# EAGLE library part ML6 (library TABOR K1)
6 pinovy konektor samec typu ML
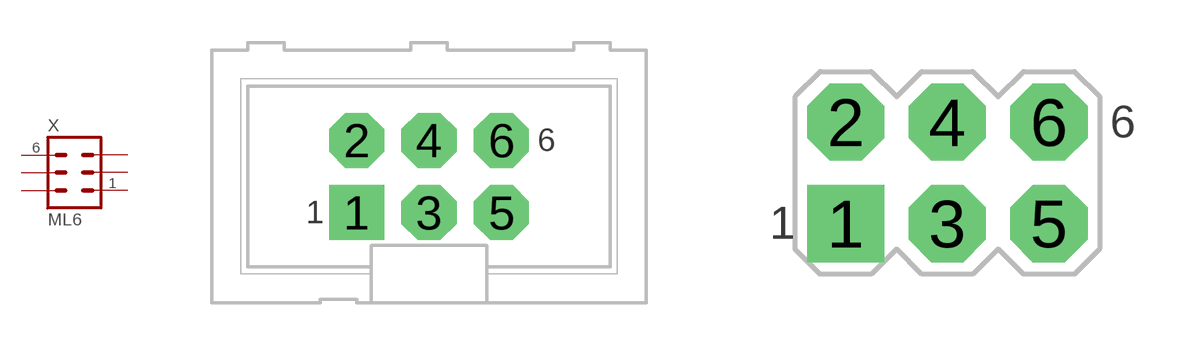
[diagram p35: symbol with the pads of MLW6; footprints MLW6, MLA6]

Designator prefix X

## ML6W  [MLW6]
1  1  pas
2  2  pas
3  3  pas
4  4  pas
5  5  pas
6  6  pas

## ML6A  [MLA6]
Pads as for MLW6

## Footprint MLW6 (pad centres in mm)
6-pinovy konektor HARTING : kolik= 0,6x0,6mm, diera s pokovenim = 0,9mm, vrtanie = 1,1mm
drill 1.092 pad 1.93 square: 1 -2.54,-1.27
drill 1.092 pad 1.93 octagon: 2 -2.54,1.27; 3 0,-1.27; 4 0,1.27; 5 2.54,-1.27; 6 2.54,1.27

## Footprint MLA6 (pad centres in mm)
6-pinovy konektor - samec : kolik= 0,6x0,6mm, diera s pokovenim = 0,9mm, vrtanie = 1,1mm
drill 1.092 pad 1.93 square: 1 -2.54,-1.27
drill 1.092 pad 1.93 octagon: 2 -2.54,1.27; 3 0,-1.27; 4 0,1.27; 5 2.54,-1.27; 6 2.54,1.27